# Altium schematic symbol library pin1x4.SchLib: 2 symbols
Pins are listed as number, name and electrical type; pins without a type are passive.

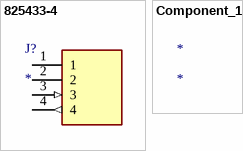
[diagram p0: symbols 825433-4 to Component_1]

## 825433-4
designator J?
Connector; Manufacturer_Name: TE Connectivity; Manufacturer_Part_Number: 825433-4; Description: AMP - TE CONNECTIVITY - 825433-4 - HEADER; Datasheet Link: https://componentsearchengine.com//825433-4.pdf; Height: 9.5mm; Mouser2 Part Number: 571-825433-4; Mouser2 Price/Stock: https://www.mouser.com/Search/Refine.aspx?Keyword=571-825433-4
footprint HDRV4W63P0X254_1X4_1016X250X950P
pins: 1 (power), 2 (power), 3 (in), 4 (out)

## Component_1
designator *